# Altium footprint library PcbLib1_TPS5430.PcbLib: 1 footprints
Each footprint in its own frame and in the unit in brackets; x right, y up, seen from the top. Pads: shape width x height; smd on the part's side, far side on the other; paste and mask are expansions set on the pad; w line width, h text height; cw(c..) or ccw(c..) is an arc to the next point about the centre after c.
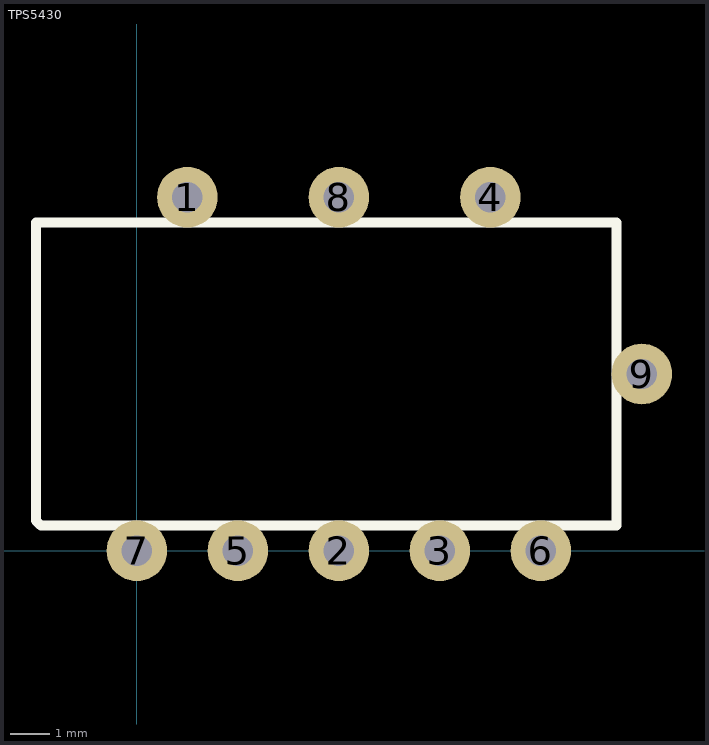
[diagram p0: the footprint, top view; thin cyan lines are the x and y axes]

## TPS5430 [mil] "TPS5430"
pads (9):
  round 60 hole 30: 1(50,350) 2(200,0) 3(300,0) 4(350,350) 5(100,0) 6(400,0) 7(0,0) 8(200,350) 9(500,175)
Top Overlay:
  lines w10: -100,30 -95,25 475,25 475,325 -100,325 -100,30